# EAGLE library part LP3982IMM (library yantronix)
Micropower, Ultra Low-Dropout, Low-Noise, 300mA CMOS Regulator
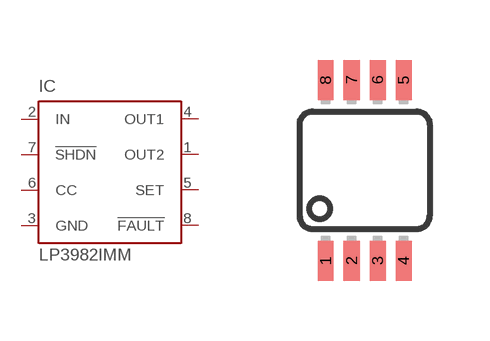
[diagram p1: symbol with the pads of MSOP08; footprint MSOP08]

Designator prefix IC

## LP3982IMM  [MSOP08]
1  OUT2  out
2  IN  in
3  GND  pwr
4  OUT1  out
5  SET  in
6  CC  in
7  !SHDN  in
8  !FAULT  out

## Footprint MSOP08 (pad centres in mm)
8-Lead micro SO (RM-8) Source: http://www.analog.com/UploadedFiles/Data_Sheets/703465986AD8611_2_0.pdf
smd 0.4 x 1: 1 -0.976,-2.263; 2 -0.326,-2.263; 3 0.324,-2.263; 4 0.974,-2.263; 5 0.974,2.262; 6 0.324,2.262; 7 -0.326,2.262; 8 -0.976,2.262